# Altium integrated library Devices.IntLib: 8 symbols
Pins are listed as number, name and electrical type; pins without a type are passive.

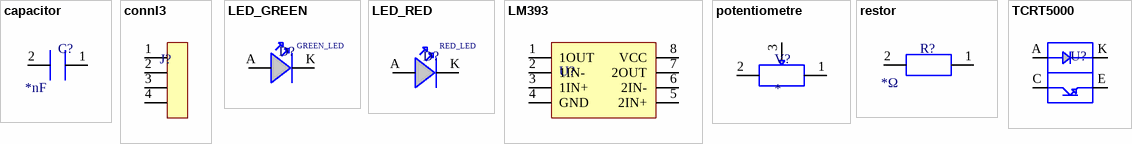
[diagram p0: symbols capacitor to TCRT5000]

## capacitor
designator C?  Cap en uF ou nF: *nF  (hidden comment: *)
footprint CAPACITOR
pins: 1, 2

## connI3
designator J?  (value not drawn)
footprint conn
pins: 1, 2, 3, 4

## LED_GREEN
designator D?  (value not drawn)
footprint LED_GREEN
pins: A, K
text: GREEN_LED

## LED_RED
designator D?  (value not drawn)
footprint LED
pins: A, K
text: RED_LED

## LM393
designator U?  (value not drawn)
footprint LM393
pins: 1 1OUT, 2 1IN-, 3 1IN+, 4 GND, 5 2IN+, 6 2IN-, 7 2OUT, 8 VCC

## potentiometre
designator V?
footprint POTENTIOMETER
pins: 1, 2, 3

## restor
designator R?  Resistance(Ω): *Ω  (hidden comment: *)  (graphical)
footprint RESISTOR
pins: 1, 2

## TCRT5000
designator U?  (value not drawn)
footprint tcrt5000
pins: A, C, E, K